# Altium footprint library Boardofall.PcbLib: 29 footprints (part 2 of 2)
Each footprint in its own frame and in the unit in brackets; x right, y up, seen from the top. Pads: shape width x height; smd on the part's side, far side on the other; paste and mask are expansions set on the pad; w line width, h text height; cw(c..) or ccw(c..) is an arc to the next point about the centre after c.
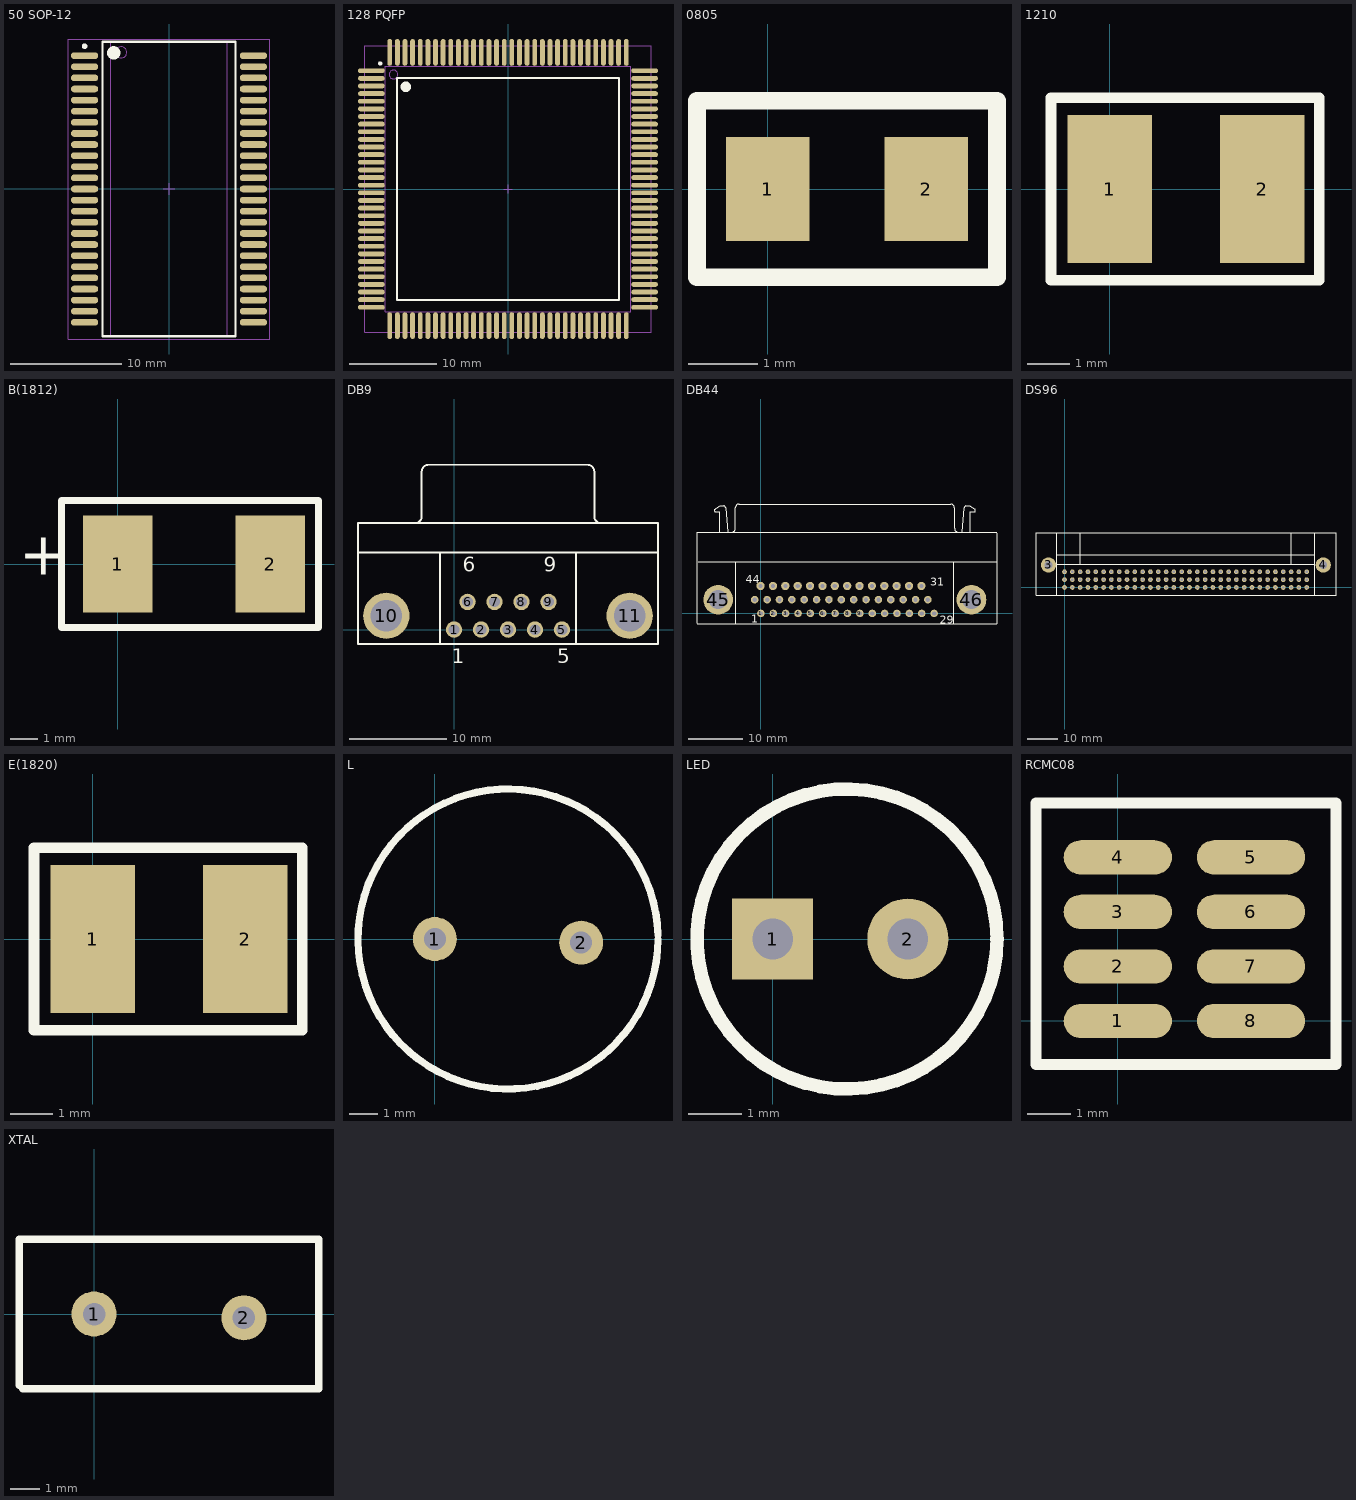
[diagram p1: the footprints below, top view; thin cyan lines are the x and y axes]

## 50 SOP-12 [mm]
pads (50):
  oval 2.45x0.6 smd: 1(-7.6,12) 2(-7.6,11) 3(-7.6,10) 4(-7.6,9) 5(-7.6,8) 6(-7.6,7) 7(-7.6,6) 8(-7.6,5) 9(-7.6,4) 10(-7.6,3) 11(-7.6,2) 12(-7.6,1) 13(-7.6,0) 14(-7.6,-1) 15(-7.6,-2) 16(-7.6,-3) 17(-7.6,-4) 18(-7.6,-5) 19(-7.6,-6) 20(-7.6,-7) 21(-7.6,-8) 22(-7.6,-9) 23(-7.6,-10) 24(-7.6,-11) 25(-7.6,-12) 26(7.6,-12) 27(7.6,-11) 28(7.6,-10) 29(7.6,-9) 30(7.6,-8) 31(7.6,-7) 32(7.6,-6) 33(7.6,-5) 34(7.6,-4) 35(7.6,-3) 36(7.6,-2) 37(7.6,-1) 38(7.6,0) 39(7.6,1) 40(7.6,2) 41(7.6,3) 42(7.6,4) 43(7.6,5) 44(7.6,6) 45(7.6,7) 46(7.6,8) 47(7.6,9) 48(7.6,10) 49(7.6,11) 50(7.6,12)
Top Overlay:
  circle w0.25: c-7.6,12.85 r0.125
  circle w0.6: c-4.975,12.25 r0.3
  lines w0.2: -5.975,-13.25 -5.975,13.25 5.975,13.25 5.975,-13.25 -5.975,-13.25
Mechanical 13:
  circle w0.1: c-4.3,12.3 r0.5
  lines w0.1: -5.25,-13.25 -5.25,13.25 5.25,13.25 5.25,-13.25 -5.25,-13.25
Mechanical 15:
  lines w0.1: -0.5,0 0.5,0 ; 0,-0.5 0,0.5 ; -9.05,-13.5 -9.05,13.5 9.05,13.5 9.05,-13.5 -9.05,-13.5
3D body: height 2.65, standoff 0.1, extent -5.25,-13.25 5.25,13.25

## 128 PQFP [mm]
pads (128):
  oval 3.05x0.55 smd: 1(-15.575,13.485) 2(-15.575,12.615) 3(-15.575,11.745) 4(-15.575,10.875) 5(-15.575,10.005) 6(-15.575,9.135) 7(-15.575,8.265) 8(-15.575,7.395) 9(-15.575,6.525) 10(-15.575,5.655) 11(-15.575,4.785) 12(-15.575,3.915) 13(-15.575,3.045) 14(-15.575,2.175) 15(-15.575,1.305) 16(-15.575,0.435) 17(-15.575,-0.435) 18(-15.575,-1.305) 19(-15.575,-2.175) 20(-15.575,-3.045) 21(-15.575,-3.915) 22(-15.575,-4.785) 23(-15.575,-5.655) 24(-15.575,-6.525) 25(-15.575,-7.395) 26(-15.575,-8.265) 27(-15.575,-9.135) 28(-15.575,-10.005) 29(-15.575,-10.875) 30(-15.575,-11.745) 31(-15.575,-12.615) 32(-15.575,-13.485) 65(15.575,-13.485) 66(15.575,-12.615) 67(15.575,-11.745) 68(15.575,-10.875) 69(15.575,-10.005) 70(15.575,-9.135) 71(15.575,-8.265) 72(15.575,-7.395) 73(15.575,-6.525) 74(15.575,-5.655) 75(15.575,-4.785) 76(15.575,-3.915) 77(15.575,-3.045) 78(15.575,-2.175) 79(15.575,-1.305) 80(15.575,-0.435) 81(15.575,0.435) 82(15.575,1.305) 83(15.575,2.175) 84(15.575,3.045) 85(15.575,3.915) 86(15.575,4.785) 87(15.575,5.655) 88(15.575,6.525) 89(15.575,7.395) 90(15.575,8.265) 91(15.575,9.135) 92(15.575,10.005) 93(15.575,10.875) 94(15.575,11.745) 95(15.575,12.615) 96(15.575,13.485)
  oval 0.55x3.05 smd: 33(-13.485,-15.575) 34(-12.615,-15.575) 35(-11.745,-15.575) 36(-10.875,-15.575) 37(-10.005,-15.575) 38(-9.135,-15.575) 39(-8.265,-15.575) 40(-7.395,-15.575) 41(-6.525,-15.575) 42(-5.655,-15.575) 43(-4.785,-15.575) 44(-3.915,-15.575) 45(-3.045,-15.575) 46(-2.175,-15.575) 47(-1.305,-15.575) 48(-0.435,-15.575) 49(0.435,-15.575) 50(1.305,-15.575) 51(2.175,-15.575) 52(3.045,-15.575) 53(3.915,-15.575) 54(4.785,-15.575) 55(5.655,-15.575) 56(6.525,-15.575) 57(7.395,-15.575) 58(8.265,-15.575) 59(9.135,-15.575) 60(10.005,-15.575) 61(10.875,-15.575) 62(11.745,-15.575) 63(12.615,-15.575) 64(13.485,-15.575) 97(13.485,15.575) 98(12.615,15.575) 99(11.745,15.575) 100(10.875,15.575) 101(10.005,15.575) 102(9.135,15.575) 103(8.265,15.575) 104(7.395,15.575) 105(6.525,15.575) 106(5.655,15.575) 107(4.785,15.575) 108(3.915,15.575) 109(3.045,15.575) 110(2.175,15.575) 111(1.305,15.575) 112(0.435,15.575) 113(-0.435,15.575) 114(-1.305,15.575) 115(-2.175,15.575) 116(-3.045,15.575) 117(-3.915,15.575) 118(-4.785,15.575) 119(-5.655,15.575) 120(-6.525,15.575) 121(-7.395,15.575) 122(-8.265,15.575) 123(-9.135,15.575) 124(-10.005,15.575) 125(-10.875,15.575) 126(-11.745,15.575) 127(-12.615,15.575) 128(-13.485,15.575)
Top Overlay:
  circle w0.25: c-14.575,14.31 r0.125
  circle w0.6: c-11.65,11.65 r0.3
  lines w0.2: -12.65,-12.65 -12.65,12.65 12.65,12.65 12.65,-12.65 -12.65,-12.65
Mechanical 13:
  circle w0.1: c-13.05,13.05 r0.5
  lines w0.1: -14,-14 -14,14 14,14 14,-14 -14,-14
Mechanical 15:
  lines w0.1: -0.5,0 0.5,0 ; 0,-0.5 0,0.5 ; -16.35,-16.35 -16.35,16.35 16.35,16.35 16.35,-16.35 -16.35,-16.35
3D body: height 4.07, standoff 0.25, extent -14,-14 14,14

## 0805 [mm]
pads (2):
  rect 1.2x1.5 smd: 1(0,0) 2(2.286,0)
Top Overlay:
  lines w0.254: -1.016,-1.27 3.302,-1.27 3.302,1.27 -1.016,1.27 -1.016,-1.27

## 1210 [mm]
pads (2):
  rect 2x3.5 smd: 1(0,0) 2(3.6,0)
Top Overlay:
  lines w0.254: -1.397,-2.159 -1.397,2.159 4.953,2.159 4.953,-2.159 -1.397,-2.159

## B(1812) [mm]
pads (2):
  rect 2.5x3.5 smd: 1(0,0) 2(5.5,0)
Top Overlay:
  lines w0.254: -2.032,-2.286 7.239,-2.286 7.239,2.286 -2.032,2.286 -2.032,-2.286
  text "+" at -3.556,-0.381 h1.52

## DB9 [mm]
pads (11):
  round 1.69 hole 1.09: 1(0,0) 2(2.77,0) 3(5.54,0) 4(8.31,0) 5(11.08,0) 6(1.385,2.84) 7(4.155,2.84) 8(6.925,2.84) 9(9.695,2.84)
  round 4.76 hole 3.26: 10(-6.955,1.42) 11(18.035,1.42)
Top Overlay:
  lines w0.2: -9.86,7.92 20.94,7.92 ; -4.02,10.925 ccw(c-4.02,11.62) -3.325,11.62 -3.325,16.22 ; -3.32,16.225 cw(c-2.625,16.225) -2.625,16.92 13.705,16.92 cw(c13.705,16.225) 14.4,16.225 ; -1.46,-1.48 -1.46,7.92 ; 12.54,-1.48 12.54,7.92 ; 14.405,16.22 14.405,11.62 ccw(c15.1,11.62) 15.1,10.925 ; -9.86,-1.48 -9.86,10.92 20.94,10.92 20.94,-1.48 -9.86,-1.48
  text "1" at -0.25,-3.455 h1.5
  text "5" at 10.58,-3.455 h1.5
  text "9" at 9.195,5.945 h1.5
  text "6" at 0.885,5.945 h1.5

## DB44 [mm]
pads (46):
  round 1.4 hole 0.8: 1(0,0) 2(2.286,0) 3(4.572,0) 4(6.858,0) 5(9.144,0) 6(11.43,0) 7(13.716,0) 8(16.002,0) 9(18.288,0) 10(20.574,0) 11(22.86,0) 12(25.146,0) 13(27.432,0) 14(29.718,0) 15(32.004,0) 16(-1.143,2.54) 17(1.143,2.54) 18(3.429,2.54) 19(5.715,2.54) 20(8.001,2.54) 21(10.287,2.54) 22(12.573,2.54) 23(14.859,2.54) 24(17.145,2.54) 25(19.431,2.54) 26(21.717,2.54) 27(24.003,2.54) 28(26.289,2.54) 29(28.575,2.54) 30(30.861,2.54)
  round 1.524 hole 0.762: 31(-0.062,5.08) 32(2.224,5.08) 33(4.51,5.08) 34(6.796,5.08) 35(9.082,5.08) 36(11.368,5.08) 37(13.654,5.08) 38(15.94,5.08) 39(18.226,5.08) 40(20.512,5.08) 41(22.798,5.08) 42(25.084,5.08) 43(27.37,5.08) 44(29.656,5.08)
  round 5.5 hole 3.5: 45(-7.9,2.54) 46(38.914,2.54)
Top Overlay:
  lines w0.2: -11.811,-1.94 43.561,-1.94 ; -11.811,-1.778 -11.811,14.986 ; -11.811,15.006 43.561,15.006 ; -11.557,9.506 43.561,9.506 ; -8.499,19.276 -7.559,19.904 -6.837,19.904 cw(c-6.939,19.506) -6.529,19.506 ; -8.485,19.261 ccw(c-8.259,19.016) -8.509,18.796 -7.629,18.796 -7.629,15.006 ; -6.529,19.526 -6.159,15.006 ; -5.419,15.011 ccw(c-5.419,15.706) -4.724,15.706 -4.724,19.506 ; -4.719,19.511 cw(c-4.024,19.511) -4.024,20.206 ; -4.66,-1.778 -4.66,9.426 ; -4.064,20.206 35.052,20.206 ; 35.079,20.206 cw(c35.079,19.511) 35.774,19.511 ; 35.664,-1.905 35.664,9.506 ; 35.779,19.506 35.779,15.706 ccw(c36.474,15.706) 36.474,15.011 ; 37.214,15.006 37.584,19.526 ; 37.584,19.506 cw(c37.994,19.506) 37.892,19.904 38.614,19.904 39.554,19.276 ; 38.684,15.006 38.684,18.796 39.564,18.796 ccw(c39.314,19.016) 39.54,19.261 ; 43.628,-1.905 43.628,14.859
  text "31" at 31.309,5.08 h1.5
  text "44" at -2.794,5.588 h1.5
  text "29" at 33.087,-1.905 h1.5
  text "1" at -1.774,-1.769 h1.5

## DS96 [mil]
pads (98):
  round 60 hole 30: 1A(0,200) 1B(0,100) 1C(0,0) 2A(100,200) 2B(100,100) 2C(100,0) 3A(200,200) 3B(200,100) 3C(200,0) 4A(300,200) 4B(300,100) 4C(300,0) 5A(400,200) 5B(400,100) 5C(400,0) 6A(500,200) 6B(500,100) 6C(500,0) 7A(600,200) 7B(600,100) 7C(600,0) 8A(700,200) 8B(700,100) 8C(700,0) 9A(800,200) 9B(800,100) 9C(800,0) 10A(900,200) 10B(900,100) 10C(900,0) 11A(1000,200) 11B(1000,100) 11C(1000,0) 12A(1100,200) 12B(1100,100) 12C(1100,0) 13A(1200,200) 13B(1200,100) 13C(1200,0) 14A(1300,200) 14B(1300,100) 14C(1300,0) 15A(1400,200) 15B(1400,100) 15C(1400,0) 16A(1500,200) 16B(1500,100) 16C(1500,0) 17A(1600,200) 17B(1600,100) 17C(1600,0) 18A(1700,200) 18B(1700,100) 18C(1700,0) 19A(1800,200) 19B(1800,100) 19C(1800,0) 20A(1900,200) 20B(1900,100) 20C(1900,0) 21A(2000,200) 21B(2000,100) 21C(2000,0) 22A(2100,200) 22B(2100,100) 22C(2100,0) 23A(2200,200) 23B(2200,100) 23C(2200,0) 24A(2300,200) 24B(2300,100) 24C(2300,0) 25A(2400,200) 25B(2400,100) 25C(2400,0) 26A(2500,200) 26B(2500,100) 26C(2500,0) 27A(2600,200) 27B(2600,100) 27C(2600,0) 28A(2700,200) 28B(2700,100) 28C(2700,0) 29A(2800,200) 29B(2800,100) 29C(2800,0) 30A(2900,200) 30B(2900,100) 30C(2900,0) 31A(3000,200) 31B(3000,100) 31C(3000,0) 32A(3100,200) 32B(3100,100) 32C(3100,0)
  round 196.85 hole 98.43: 3(-204.72,287.4) 4(3312.6,287.4)
Top Overlay:
  lines w10: -105,-100 -365,-100 -365,700 -100,700 ; -100,416.54 3200,416.54 ; 200,300 200,690 ; 2900,300 2900,700 ; 3195,-100 3475,-100 3475,700 3200,700 ; -100,-100 -100,700 ; -100,-100 -100,300 3200,300 3200,-100 ; -100,-100 3200,-100 ; -100,700 3200,700 ; 3200,-100 3200,700

## E(1820) [mm]
pads (2):
  rect 2x3.5 smd: 1(0,0) 2(3.6,0)
Top Overlay:
  lines w0.254: -1.397,-2.159 4.953,-2.159 4.953,2.159 -1.397,2.159 -1.397,-2.159

## L [mil]
pads (2):
  round 60 hole 30: 1(0,0) 2(200,-5)
Top Overlay:
  lines w10: 304.94,5 ccw(c100,0) 305,0

## LED [mil]
pads (2):
  rect 60x60 hole 30: 1(0,0)
  round 60 hole 30: 2(100,0)
Top Overlay:
  circle w10: c55,0 r111.02

## RCMC08 [mm]
pads (8):
  oval 2.524x0.8 smd: 1(0,0) 2(0,1.27) 3(0,2.54) 4(0,3.81) 5(3.1,3.81) 6(3.1,2.54) 7(3.1,1.27) 8(3.1,0)
Top Overlay:
  lines w0.254: -1.905,-1.016 5.08,-1.016 5.08,5.08 -1.905,5.08 -1.905,-1.016

## XTAL [mil]
pads (2):
  round 60 hole 30: 1(0,0) 2(200,-5)
Top Overlay:
  lines w10: -100,-95 -100,100 300,100 300,-100 -95,-100